# Altium integrated library DFE18SAN1R0MG0L.IntLib: 1 symbol
Pins are listed as number, name and electrical type; pins without a type are passive.

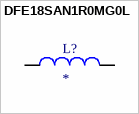
[diagram p0: symbol DFE18SAN1R0MG0L]

## DFE18SAN1R0MG0L
designator L?
DFE18SAN1R0MG0L; Package: None; Price: None; Value: *; MP: DFE18SAN1R0MG0L; Availability: Unavailable
footprint INDC1608X100N
pins: 1, 2